# Altium integrated library TMH_2405S.IntLib: 1 symbol
Pins are listed as number, name and electrical type; pins without a type are passive.

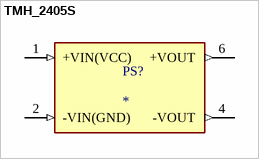
[diagram p0: symbol TMH_2405S]

## TMH_2405S
designator PS?
2 Watt DC/DC converter, industrial, unregulated, encapsulated, SIP-7 package; MF: Traco Power; MP: TMH 2405S; SnapEDA_Link: https://www.snapeda.com/parts/TMH%202405S/Traco+Power/view-part/?ref=snap; Package: SIP-7 Traco Power; Value: *; Check_prices: https://www.snapeda.com/parts/TMH%202405S/Traco+Power/view-part/?ref=eda
footprint CONV_TMH_2405S
pins: 1 +VIN(VCC) (in), 2 -VIN(GND) (in), 4 -VOUT (out), 6 +VOUT (out)